# Altium integrated library ON Semi MOSFETs.IntLib: 1097 symbols (part 23 of 26)
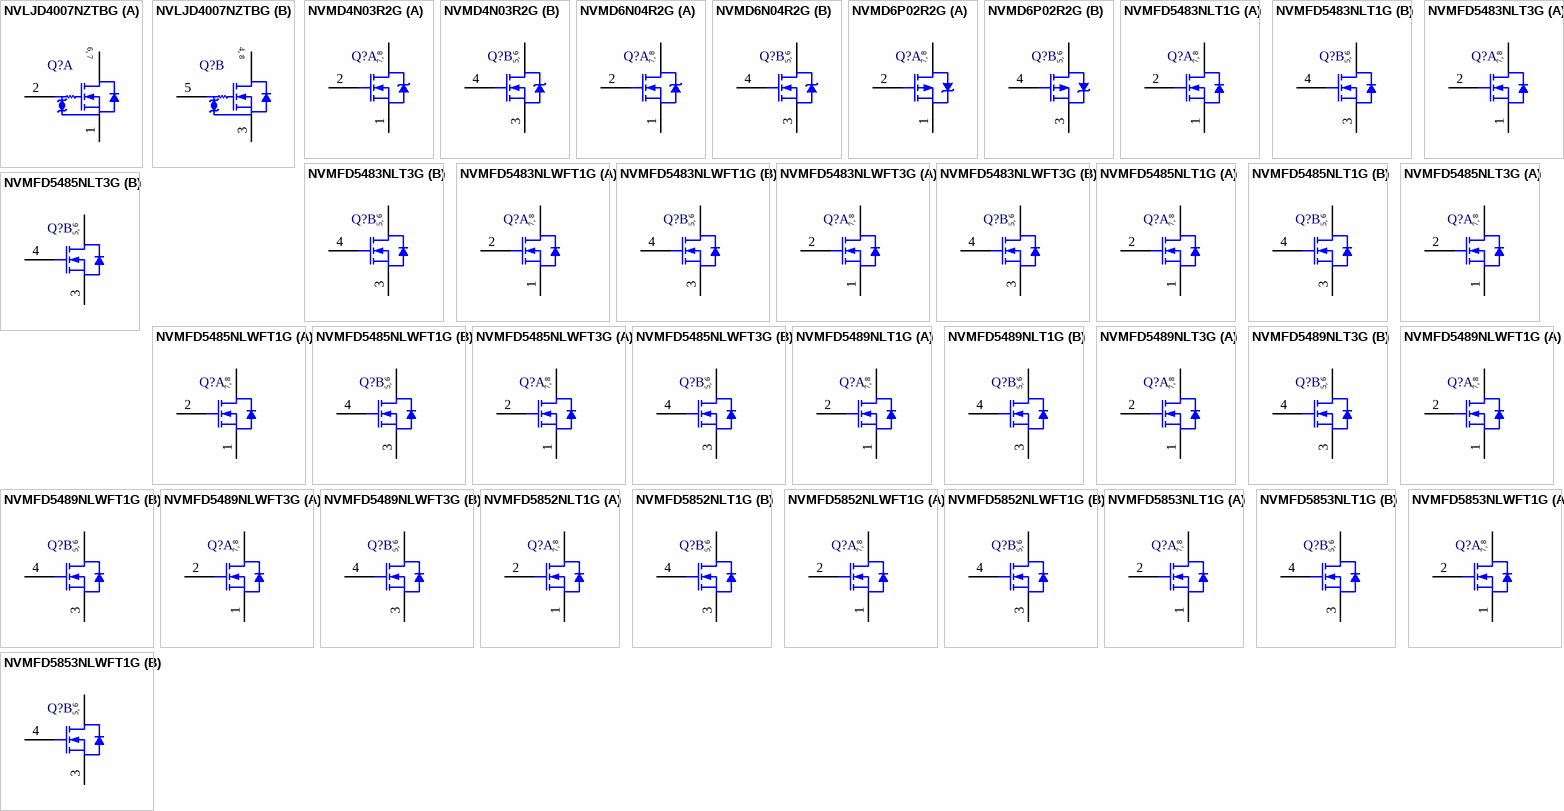
[diagram p53: symbols NVLJD4007NZTBG to NVMFD5853NLWFT1G]

## NVMD6P02R2G
designator Q?
Power MOSFET, 6 A, 20 V, P-Channel, 8-Pin SOIC, Pb-Free, Tape and Reel; Manufacturer: On Semiconductor; PartNumber: NVMD6P02R2G; Channel Polarity: P Channel; Ciss Typ (pF): 1380; Configuration: Dual; Coss Typ (pF): 515; Crss Typ (pF): 250; Qrr Typ (nC): 40; V(BR)DSS Min (V): 20; VGS Max (V): 12; VGS(th) Max (V): 1.2; DatasheetVersion: Rev. 4; PackageVersion: Rev. AK, 02/2011; PackageReference: SOIC-8-751-07; PackageDescription: 8-Pin Small Outline Integrated Circuit, Body 4.9 x 3.9 mm, Pitch 1.27 mm; Package Type: SOIC-8; Packing: Tape and Reel; RoHS: Pb-Free; Mounting Technology: Surface Mount; ComponentLink1Description: Manufacturer URL; ComponentLink1URL: http://www.onsemi.com/; ComponentLink2Description: Datasheet; ComponentLink2URL: http://www.onsemi.com/pub_link/Collateral/NTMD6P02R2-D.PDF; ComponentLink3Description: Package Specification; ComponentLink3URL: http://www.onsemi.com/pub_link/Collateral/751-07.PDF
footprint ONSC-SOIC-8-751-07_V (SOIC, 8-Leads, Body 4.9x3.9mm, Pitch 1.27mm)
part A pins: 1 S1, 2 G1, 7 D1, 8 D1
part B pins: 3 S2, 4 G2, 5 D2, 6 D2
part A text: 7, 8
part B text: 5, 6

## NVMFD5483NLT1G
designator Q?
Power MOSFET, 60 V, 36 mOhm , 24 A, Dual N-Channel, 8-Pin DFN, Pb-Free, Tape and Reel; Manufacturer: On Semiconductor; PartNumber: NVMFD5483NLT1G; Channel Polarity: N Channel; Ciss Typ (pF): 668; Coss Typ (pF): 152; Crss Typ (pF): 67; ID Max (A): 24; Qrr Typ (nC): 35; V(BR)DSS Min (V): 60; VGS Max (V): 20; VGS(th) Max (V): 2.5; DatasheetVersion: Rev. 1; PackageVersion: Rev. E, 02/2013; PackageReference: DFN-8-506BT; PackageDescription: 8-Pin Small Outline No-Lead, Body 4.9 x 5.9 mm, Pitch 1.27 mm; Supplier 1: Newark; Supplier Part Number 1: 11X3703; Supplier 2: Mouser; Supplier Part Number 2: 863-NVMFD5483NLT1G; Configuration: Dual; Package Type: DFN-8; Packing: Tape and Reel; RoHS: Pb-Free; Mounting Technology: Surface Mount; ComponentLink1Description: Manufacturer URL; ComponentLink1URL: http://www.onsemi.com/; ComponentLink2Description: Datasheet; ComponentLink2URL: http://www.onsemi.com/pub_link/Collateral/NVMFD5483NL-D.PDF; ComponentLink3Description: Package Specification; ComponentLink3URL: http://www.onsemi.com/pub_link/Collateral/506BT.PDF
footprint ONSC-DFN-8-506BT_V (DFN, 8-Leads, Body 5.9x4.9mm, Pitch 1.27mm)
part A pins: 1 S1, 2 G1, 7 D1, 8 D1
part B pins: 3 S2, 4 G2, 5 D2, 6 D2
part A text: 7, 8
part B text: 5, 6

## NVMFD5483NLT3G
designator Q?
Power MOSFET, 60 V, 24 A, 36 mOhm, Dual N-Channel, 8-Pin DFN, Pb-Free, Tape and Reel; Manufacturer: On Semiconductor; PartNumber: NVMFD5483NLT3G; Channel Polarity: N Channel; Ciss Typ (pF): 668; Coss Typ (pF): 152; Crss Typ (pF): 67; ID Max (A): 24; Qrr Typ (nC): 35; V(BR)DSS Min (V): 60; VGS Max (V): 20; VGS(th) Max (V): 2.5; DatasheetVersion: Rev. 1; PackageVersion: Rev. E, 02/2013; PackageReference: DFN-8-506BT; PackageDescription: 8-Pin Small Outline No-Lead, Body 4.9 x 5.9 mm, Pitch 1.27 mm; Supplier 1: Newark; Supplier Part Number 1: 11X3704; Supplier 2: Mouser; Supplier Part Number 2: 863-NVMFD5483NLT3G; Configuration: Dual; Package Type: DFN-8; Packing: Tape and Reel; RoHS: Pb-Free; Mounting Technology: Surface Mount; ComponentLink1Description: Manufacturer URL; ComponentLink1URL: http://www.onsemi.com/; ComponentLink2Description: Datasheet; ComponentLink2URL: http://www.onsemi.com/pub_link/Collateral/NVMFD5483NL-D.PDF; ComponentLink3Description: Package Specification; ComponentLink3URL: http://www.onsemi.com/pub_link/Collateral/506BT.PDF
footprint ONSC-DFN-8-506BT_V (DFN, 8-Leads, Body 5.9x4.9mm, Pitch 1.27mm)
part A pins: 1 S1, 2 G1, 7 D1, 8 D1
part B pins: 3 S2, 4 G2, 5 D2, 6 D2
part A text: 7, 8
part B text: 5, 6

## NVMFD5483NLWFT1G
designator Q?
Power MOSFET, 60 V, 36 mOhm , 24 A, Dual N-Channel, 8-Pin DFN, Pb-Free, Tape and Reel; Manufacturer: On Semiconductor; PartNumber: NVMFD5483NLWFT1G; Channel Polarity: N Channel; Ciss Typ (pF): 668; Coss Typ (pF): 152; Crss Typ (pF): 67; ID Max (A): 24; Qrr Typ (nC): 35; V(BR)DSS Min (V): 60; VGS Max (V): 20; VGS(th) Max (V): 2.5; DatasheetVersion: Rev. 1; PackageVersion: Rev. E, 02/2013; PackageReference: DFN-8-506BT; PackageDescription: 8-Pin Small Outline No-Lead, Body 4.9 x 5.9 mm, Pitch 1.27 mm; Supplier 1: Newark; Supplier Part Number 1: 11X3705; Supplier 2: Mouser; Supplier Part Number 2: 863-NVMFD5483NLWFT1G; Configuration: Dual; Package Type: DFN-8; Packing: Tape and Reel; RoHS: Pb-Free; Mounting Technology: Surface Mount; ComponentLink1Description: Manufacturer URL; ComponentLink1URL: http://www.onsemi.com/; ComponentLink2Description: Datasheet; ComponentLink2URL: http://www.onsemi.com/pub_link/Collateral/NVMFD5483NL-D.PDF; ComponentLink3Description: Package Specification; ComponentLink3URL: http://www.onsemi.com/pub_link/Collateral/506BT.PDF
footprint ONSC-DFN-8-506BT_V (DFN, 8-Leads, Body 5.9x4.9mm, Pitch 1.27mm)
part A pins: 1 S1, 2 G1, 7 D1, 8 D1
part B pins: 3 S2, 4 G2, 5 D2, 6 D2
part A text: 7, 8
part B text: 5, 6

## NVMFD5483NLWFT3G
designator Q?
Power MOSFET, 60 V, 24 A, 36 mOhm, Dual N-Channel, 8-Pin DFN, Pb-Free, Tape and Reel; Manufacturer: On Semiconductor; PartNumber: NVMFD5483NLWFT3G; Channel Polarity: N Channel; Ciss Typ (pF): 668; Coss Typ (pF): 152; Crss Typ (pF): 67; ID Max (A): 24; Qrr Typ (nC): 35; V(BR)DSS Min (V): 60; VGS Max (V): 20; VGS(th) Max (V): 2.5; DatasheetVersion: Rev. 1; PackageVersion: Rev. E, 02/2013; PackageReference: DFN-8-506BT; PackageDescription: 8-Pin Small Outline No-Lead, Body 4.9 x 5.9 mm, Pitch 1.27 mm; Supplier 1: Newark; Supplier Part Number 1: 11X3706; Supplier 2: Mouser; Supplier Part Number 2: 863-NVMFD5483NLWFT3G; Configuration: Dual; Package Type: DFN-8; Packing: Tape and Reel; RoHS: Pb-Free; Mounting Technology: Surface Mount; ComponentLink1Description: Manufacturer URL; ComponentLink1URL: http://www.onsemi.com/; ComponentLink2Description: Datasheet; ComponentLink2URL: http://www.onsemi.com/pub_link/Collateral/NVMFD5483NL-D.PDF; ComponentLink3Description: Package Specification; ComponentLink3URL: http://www.onsemi.com/pub_link/Collateral/506BT.PDF
footprint ONSC-DFN-8-506BT_V (DFN, 8-Leads, Body 5.9x4.9mm, Pitch 1.27mm)
part A pins: 1 S1, 2 G1, 7 D1, 8 D1
part B pins: 3 S2, 4 G2, 5 D2, 6 D2
part A text: 7, 8
part B text: 5, 6

## NVMFD5485NLT1G
designator Q?
Power MOSFET, 60 V, 20 A, 44 mOhm, Dual N-Channel, 8-Pin DFN, Pb-Free, Tape and Reel; Manufacturer: On Semiconductor; PartNumber: NVMFD5485NLT1G; Channel Polarity: N Channel; Ciss Typ (pF): 560; Coss Typ (pF): 126; Crss Typ (pF): 58; ID Max (A): 20; Qrr Typ (nC): 35.5; V(BR)DSS Min (V): 60; VGS(th) Max (V): 2.5; DatasheetVersion: Rev. 1; PackageVersion: Rev. E, 02/2013; PackageReference: DFN-8-506BT; PackageDescription: 8-Pin Small Outline No-Lead, Body 4.9 x 5.9 mm, Pitch 1.27 mm; Supplier 1: Newark; Supplier Part Number 1: 11X3707; Supplier 2: Mouser; Supplier Part Number 2: 863-NVMFD5485NLT1G; Configuration: Dual; Package Type: DFN-8; Packing: Tape and Reel; RoHS: Pb-Free; VGS Max (V): 20; Mounting Technology: Surface Mount; ComponentLink1Description: Manufacturer URL; ComponentLink1URL: http://www.onsemi.com/; ComponentLink2Description: Datasheet; ComponentLink2URL: http://www.onsemi.com/pub_link/Collateral/NVMFD5485NL-D.PDF; ComponentLink3Description: Package Specification; ComponentLink3URL: http://www.onsemi.com/pub_link/Collateral/506BT.PDF
footprint ONSC-DFN-8-506BT_V (DFN, 8-Leads, Body 5.9x4.9mm, Pitch 1.27mm)
part A pins: 1 S1, 2 G1, 7 D1, 8 D1
part B pins: 3 S2, 4 G2, 5 D2, 6 D2
part A text: 7, 8
part B text: 5, 6

## NVMFD5485NLT3G
designator Q?
Power MOSFET, 60 V, 20 A, 44 mOhm, Dual N-Channel, 8-Pin DFN, Pb-Free, Tape and Reel; Manufacturer: On Semiconductor; PartNumber: NVMFD5485NLT3G; Channel Polarity: N Channel; Ciss Typ (pF): 560; Coss Typ (pF): 126; Crss Typ (pF): 58; ID Max (A): 20; Qrr Typ (nC): 35.5; V(BR)DSS Min (V): 60; VGS(th) Max (V): 2.5; DatasheetVersion: Rev. 1; PackageVersion: Rev. E, 02/2013; PackageReference: DFN-8-506BT; PackageDescription: 8-Pin Small Outline No-Lead, Body 4.9 x 5.9 mm, Pitch 1.27 mm; Supplier 1: Newark; Supplier Part Number 1: 11X3708; Supplier 2: Mouser; Supplier Part Number 2: 863-NVMFD5485NLT3G; Configuration: Dual; Package Type: DFN-8; Packing: Tape and Reel; RoHS: Pb-Free; VGS Max (V): 20; Mounting Technology: Surface Mount; ComponentLink1Description: Manufacturer URL; ComponentLink1URL: http://www.onsemi.com/; ComponentLink2Description: Datasheet; ComponentLink2URL: http://www.onsemi.com/pub_link/Collateral/NVMFD5485NL-D.PDF; ComponentLink3Description: Package Specification; ComponentLink3URL: http://www.onsemi.com/pub_link/Collateral/506BT.PDF
footprint ONSC-DFN-8-506BT_V (DFN, 8-Leads, Body 5.9x4.9mm, Pitch 1.27mm)
part A pins: 1 S1, 2 G1, 7 D1, 8 D1
part B pins: 3 S2, 4 G2, 5 D2, 6 D2
part A text: 7, 8
part B text: 5, 6

## NVMFD5485NLWFT1G
designator Q?
Power MOSFET, 60 V, 20 A, 44 mOhm, Dual N-Channel, 8-Pin DFN, Pb-Free, Tape and Reel; Manufacturer: On Semiconductor; PartNumber: NVMFD5485NLWFT1G; Channel Polarity: N Channel; Ciss Typ (pF): 560; Coss Typ (pF): 126; Crss Typ (pF): 58; ID Max (A): 20; Qrr Typ (nC): 35.5; V(BR)DSS Min (V): 60; VGS(th) Max (V): 2.5; DatasheetVersion: Rev. 1; PackageVersion: Rev. E, 02/2013; PackageReference: DFN-8-506BT; PackageDescription: 8-Pin Small Outline No-Lead, Body 4.9 x 5.9 mm, Pitch 1.27 mm; Supplier 1: Newark; Supplier Part Number 1: 11X3709; Supplier 2: Mouser; Supplier Part Number 2: 863-NVMFD5485NLWFT1G; Configuration: Dual; Package Type: DFN-8; Packing: Tape and Reel; RoHS: Pb-Free; VGS Max (V): 20; Mounting Technology: Surface Mount; ComponentLink1Description: Manufacturer URL; ComponentLink1URL: http://www.onsemi.com/; ComponentLink2Description: Datasheet; ComponentLink2URL: http://www.onsemi.com/pub_link/Collateral/NVMFD5485NL-D.PDF; ComponentLink3Description: Package Specification; ComponentLink3URL: http://www.onsemi.com/pub_link/Collateral/506BT.PDF
footprint ONSC-DFN-8-506BT_V (DFN, 8-Leads, Body 5.9x4.9mm, Pitch 1.27mm)
part A pins: 1 S1, 2 G1, 7 D1, 8 D1
part B pins: 3 S2, 4 G2, 5 D2, 6 D2
part A text: 7, 8
part B text: 5, 6

## NVMFD5485NLWFT3G
designator Q?
Power MOSFET, 60 V, 20 A, 44 mOhm, Dual N-Channel, 8-Pin DFN, Pb-Free, Tape and Reel; Manufacturer: On Semiconductor; PartNumber: NVMFD5485NLWFT3G; Channel Polarity: N Channel; Ciss Typ (pF): 560; Coss Typ (pF): 126; Crss Typ (pF): 58; ID Max (A): 20; Qrr Typ (nC): 35.5; V(BR)DSS Min (V): 60; VGS(th) Max (V): 2.5; DatasheetVersion: Rev. 1; PackageVersion: Rev. E, 02/2013; PackageReference: DFN-8-506BT; PackageDescription: 8-Pin Small Outline No-Lead, Body 4.9 x 5.9 mm, Pitch 1.27 mm; Supplier 1: Newark; Supplier Part Number 1: 11X3710; Supplier 2: Mouser; Supplier Part Number 2: 863-NVMFD5485NLWFT3G; Configuration: Dual; Package Type: DFN-8; Packing: Tape and Reel; RoHS: Pb-Free; VGS Max (V): 20; Mounting Technology: Surface Mount; ComponentLink1Description: Manufacturer URL; ComponentLink1URL: http://www.onsemi.com/; ComponentLink2Description: Datasheet; ComponentLink2URL: http://www.onsemi.com/pub_link/Collateral/NVMFD5485NL-D.PDF; ComponentLink3Description: Package Specification; ComponentLink3URL: http://www.onsemi.com/pub_link/Collateral/506BT.PDF
footprint ONSC-DFN-8-506BT_V (DFN, 8-Leads, Body 5.9x4.9mm, Pitch 1.27mm)
part A pins: 1 S1, 2 G1, 7 D1, 8 D1
part B pins: 3 S2, 4 G2, 5 D2, 6 D2
part A text: 7, 8
part B text: 5, 6

## NVMFD5489NLT1G
designator Q?
Power MOSFET, 60 V, 12 A, 65 mOhm, Dual N-Channel Logic Level, 8-Pin DFN, Pb-Free, Tape and Reel; Manufacturer: On Semiconductor; PartNumber: NVMFD5489NLT1G; Channel Polarity: N Channel; Ciss Typ (pF): 330; Coss Typ (pF): 80; Crss Typ (pF): 39; ID Max (A): 12; Qrr Typ (nC): 26.5; V(BR)DSS Min (V): 60; VGS Max (V): 20; VGS(th) Max (V): 2.5; DatasheetVersion: Rev. 1; PackageVersion: Rev. E, 02/2013; PackageReference: DFN-8-506BT; PackageDescription: 8-Pin Small Outline No-Lead, Body 4.9 x 5.9 mm, Pitch 1.27 mm; Supplier 1: Newark; Supplier Part Number 1: 11X3711; Supplier 2: Mouser; Supplier Part Number 2: 863-NVMFD5489NLT1G; Configuration: Dual; Package Type: DFN-8; Packing: Tape and Reel; RoHS: Pb-Free; Mounting Technology: Surface Mount; ComponentLink1Description: Manufacturer URL; ComponentLink1URL: http://www.onsemi.com/; ComponentLink2Description: Datasheet; ComponentLink2URL: http://www.onsemi.com/pub_link/Collateral/NVMFD5489NL-D.PDF; ComponentLink3Description: Package Specification; ComponentLink3URL: http://www.onsemi.com/pub_link/Collateral/506BT.PDF
footprint ONSC-DFN-8-506BT_V (DFN, 8-Leads, Body 5.9x4.9mm, Pitch 1.27mm)
part A pins: 1 S1, 2 G1, 7 D1, 8 D1
part B pins: 3 S2, 4 G2, 5 D2, 6 D2
part A text: 7, 8
part B text: 5, 6

## NVMFD5489NLT3G
designator Q?
Power MOSFET, 60 V, 12 A, 65 mOhm, Dual N-Channel Logic Level, 8-Pin DFN, Pb-Free, Tape and Reel; Manufacturer: On Semiconductor; PartNumber: NVMFD5489NLT3G; Channel Polarity: N Channel; Ciss Typ (pF): 330; Coss Typ (pF): 80; Crss Typ (pF): 39; ID Max (A): 12; Qrr Typ (nC): 26.5; V(BR)DSS Min (V): 60; VGS Max (V): 20; VGS(th) Max (V): 2.5; DatasheetVersion: Rev. 1; PackageVersion: Rev. E, 02/2013; PackageReference: DFN-8-506BT; PackageDescription: 8-Pin Small Outline No-Lead, Body 4.9 x 5.9 mm, Pitch 1.27 mm; Supplier 1: Newark; Supplier Part Number 1: 11X3712; Supplier 2: Mouser; Supplier Part Number 2: 863-NVMFD5489NLT3G; Configuration: Dual; Package Type: DFN-8; Packing: Tape and Reel; RoHS: Pb-Free; Mounting Technology: Surface Mount; ComponentLink1Description: Manufacturer URL; ComponentLink1URL: http://www.onsemi.com/; ComponentLink2Description: Datasheet; ComponentLink2URL: http://www.onsemi.com/pub_link/Collateral/NVMFD5489NL-D.PDF; ComponentLink3Description: Package Specification; ComponentLink3URL: http://www.onsemi.com/pub_link/Collateral/506BT.PDF
footprint ONSC-DFN-8-506BT_V (DFN, 8-Leads, Body 5.9x4.9mm, Pitch 1.27mm)
part A pins: 1 S1, 2 G1, 7 D1, 8 D1
part B pins: 3 S2, 4 G2, 5 D2, 6 D2
part A text: 7, 8
part B text: 5, 6

## NVMFD5489NLWFT1G
designator Q?
Power MOSFET, 60 V, 12 A, 65 mOhm, Dual N-Channel Logic Level, 8-Pin DFN, Pb-Free, Tape and Reel; Manufacturer: On Semiconductor; PartNumber: NVMFD5489NLWFT1G; Channel Polarity: N Channel; Ciss Typ (pF): 330; Coss Typ (pF): 80; Crss Typ (pF): 39; ID Max (A): 12; Qrr Typ (nC): 26.5; V(BR)DSS Min (V): 60; VGS Max (V): 20; VGS(th) Max (V): 2.5; DatasheetVersion: Rev. 1; PackageVersion: Rev. E, 02/2013; PackageReference: DFN-8-506BT; PackageDescription: 8-Pin Small Outline No-Lead, Body 4.9 x 5.9 mm, Pitch 1.27 mm; Supplier 1: Newark; Supplier Part Number 1: 11X3713; Supplier 2: Mouser; Supplier Part Number 2: 863-NVMFD5489NLWFT1G; Configuration: Dual; Package Type: DFN-8; Packing: Tape and Reel; RoHS: Pb-Free; Mounting Technology: Surface Mount; ComponentLink1Description: Manufacturer URL; ComponentLink1URL: http://www.onsemi.com/; ComponentLink2Description: Datasheet; ComponentLink2URL: http://www.onsemi.com/pub_link/Collateral/NVMFD5489NL-D.PDF; ComponentLink3Description: Package Specification; ComponentLink3URL: http://www.onsemi.com/pub_link/Collateral/506BT.PDF
footprint ONSC-DFN-8-506BT_V (DFN, 8-Leads, Body 5.9x4.9mm, Pitch 1.27mm)
part A pins: 1 S1, 2 G1, 7 D1, 8 D1
part B pins: 3 S2, 4 G2, 5 D2, 6 D2
part A text: 7, 8
part B text: 5, 6

## NVMFD5489NLWFT3G
designator Q?
Power MOSFET, 60 V, 12 A, 65 mOhm, Dual N-Channel Logic Level, 8-Pin DFN, Pb-Free, Tape and Reel; Manufacturer: On Semiconductor; PartNumber: NVMFD5489NLWFT3G; Channel Polarity: N Channel; Ciss Typ (pF): 330; Coss Typ (pF): 80; Crss Typ (pF): 39; ID Max (A): 12; Qrr Typ (nC): 26.5; V(BR)DSS Min (V): 60; VGS Max (V): 20; VGS(th) Max (V): 2.5; DatasheetVersion: Rev. 1; PackageVersion: Rev. E, 02/2013; PackageReference: DFN-8-506BT; PackageDescription: 8-Pin Small Outline No-Lead, Body 4.9 x 5.9 mm, Pitch 1.27 mm; Supplier 1: Newark; Supplier Part Number 1: 11X3714; Supplier 2: Mouser; Supplier Part Number 2: 863-NVMFD5489NLWFT3G; Configuration: Dual; Package Type: DFN-8; Packing: Tape and Reel; RoHS: Pb-Free; Mounting Technology: Surface Mount; ComponentLink1Description: Manufacturer URL; ComponentLink1URL: http://www.onsemi.com/; ComponentLink2Description: Datasheet; ComponentLink2URL: http://www.onsemi.com/pub_link/Collateral/NVMFD5489NL-D.PDF; ComponentLink3Description: Package Specification; ComponentLink3URL: http://www.onsemi.com/pub_link/Collateral/506BT.PDF
footprint ONSC-DFN-8-506BT_V (DFN, 8-Leads, Body 5.9x4.9mm, Pitch 1.27mm)
part A pins: 1 S1, 2 G1, 7 D1, 8 D1
part B pins: 3 S2, 4 G2, 5 D2, 6 D2
part A text: 7, 8
part B text: 5, 6

## NVMFD5852NLT1G
designator Q?
Power MOSFET, 40 V, 44 A, 6.9 mOhm, Dual N-Channel Logic Level, 8-Pin DFN, Pb-Free, Tape and Reel; Manufacturer: On Semiconductor; PartNumber: NVMFD5852NLT1G; Channel Polarity: N Channel; Ciss Typ (pF): 1800; Coss Typ (pF): 240; Crss Typ (pF): 180; ID Max (A): 44; Qrr Typ (nC): 15.2; V(BR)DSS Min (V): 40; VGS Max (V): 20; VGS(th) Max (V): 2.4; DatasheetVersion: Rev. 5; PackageVersion: Rev. E, 02/2013; PackageReference: DFN-8-506BT; PackageDescription: 8-Pin Small Outline No-Lead, Body 4.9 x 5.9 mm, Pitch 1.27 mm; Supplier 1: Newark; Supplier Part Number 1: 60W1850; Supplier 2: Mouser; Supplier Part Number 2: 863-NVMFD5852NLT1G; Configuration: Dual; Package Type: DFN-8; Packing: Tape and Reel; RoHS: Pb-Free; Mounting Technology: Surface Mount; ComponentLink1Description: Manufacturer URL; ComponentLink1URL: http://www.onsemi.com/; ComponentLink2Description: Datasheet; ComponentLink2URL: http://www.onsemi.com/pub_link/Collateral/NVMFD5852NL-D.PDF; ComponentLink3Description: Package Specification; ComponentLink3URL: http://www.onsemi.com/pub_link/Collateral/506BT.PDF
footprint ONSC-DFN-8-506BT_V (DFN, 8-Leads, Body 5.9x4.9mm, Pitch 1.27mm)
part A pins: 1 S1, 2 G1, 7 D1, 8 D1
part B pins: 3 S2, 4 G2, 5 D2, 6 D2
part A text: 7, 8
part B text: 5, 6

## NVMFD5852NLWFT1G
designator Q?
Power MOSFET, 40 V, 44 A, 6.9 mOhm, Dual N-Channel Logic Level, 8-Pin DFN, Pb-Free, Tape and Reel; Manufacturer: On Semiconductor; PartNumber: NVMFD5852NLWFT1G; Channel Polarity: N Channel; Ciss Typ (pF): 1800; Coss Typ (pF): 240; Crss Typ (pF): 180; ID Max (A): 44; Qrr Typ (nC): 15.2; V(BR)DSS Min (V): 40; VGS Max (V): 20; VGS(th) Max (V): 2.4; DatasheetVersion: Rev. 5; PackageVersion: Rev. E, 02/2013; PackageReference: DFN-8-506BT; PackageDescription: 8-Pin Small Outline No-Lead, Body 4.9 x 5.9 mm, Pitch 1.27 mm; Supplier 1: Newark; Supplier Part Number 1: 11X3715; Supplier 2: Mouser; Supplier Part Number 2: 863-NVMFD5852NLWFT1G; Configuration: Dual; Package Type: DFN-8; Packing: Tape and Reel; RoHS: Pb-Free; Mounting Technology: Surface Mount; ComponentLink1Description: Manufacturer URL; ComponentLink1URL: http://www.onsemi.com/; ComponentLink2Description: Datasheet; ComponentLink2URL: http://www.onsemi.com/pub_link/Collateral/NVMFD5852NL-D.PDF; ComponentLink3Description: Package Specification; ComponentLink3URL: http://www.onsemi.com/pub_link/Collateral/506BT.PDF
footprint ONSC-DFN-8-506BT_V (DFN, 8-Leads, Body 5.9x4.9mm, Pitch 1.27mm)
part A pins: 1 S1, 2 G1, 7 D1, 8 D1
part B pins: 3 S2, 4 G2, 5 D2, 6 D2
part A text: 7, 8
part B text: 5, 6

## NVMFD5853NLT1G
designator Q?
Power MOSFET, 40 V, 34 A, 10 mOhm, Dual N-Channel Logic Level, 8-Pin DFN, Pb-Free, Tape and Reel; Manufacturer: On Semiconductor; PartNumber: NVMFD5853NLT1G; Channel Polarity: N Channel; Ciss Typ (pF): 1100; Coss Typ (pF): 152; Crss Typ (pF): 100; ID Max (A): 34; Qrr Typ (nC): 12.1; V(BR)DSS Min (V): 40; VGS Max (V): 20; VGS(th) Max (V): 2.4; DatasheetVersion: Rev. 3; PackageVersion: Rev. E, 02/2013; PackageReference: DFN-8-506BT; PackageDescription: 8-Pin Small Outline No-Lead, Body 4.9 x 5.9 mm, Pitch 1.27 mm; Supplier 1: Newark; Supplier Part Number 1: 72W2342; Supplier 2: Mouser; Supplier Part Number 2: 863-NVMFD5853NLT1G; Configuration: Dual; Package Type: SO-8FL Dual / DFN-8; Packing: Tape and Reel; RoHS: Pb-Free; Mounting Technology: Surface Mount; ComponentLink1Description: Manufacturer URL; ComponentLink1URL: http://www.onsemi.com/; ComponentLink2Description: Datasheet; ComponentLink2URL: http://www.onsemi.com/pub_link/Collateral/NVMFD5853NL-D.PDF; ComponentLink3Description: Package Specification; ComponentLink3URL: http://www.onsemi.com/pub_link/Collateral/506BT.PDF
footprint ONSC-DFN-8-506BT_V (DFN, 8-Leads, Body 5.9x4.9mm, Pitch 1.27mm)
part A pins: 1 S1, 2 G1, 7 D1, 8 D1
part B pins: 3 S2, 4 G2, 5 D2, 6 D2
part A text: 7, 8
part B text: 5, 6

## NVMFD5853NLWFT1G
designator Q?
Power MOSFET, 40 V, 34 A, 10 mOhm, Dual N-Channel Logic Level, 8-Pin DFN, Pb-Free, Tape and Reel; Manufacturer: On Semiconductor; PartNumber: NVMFD5853NLWFT1G; Channel Polarity: N Channel; Ciss Typ (pF): 1100; Coss Typ (pF): 152; Crss Typ (pF): 100; ID Max (A): 34; Qrr Typ (nC): 12.1; V(BR)DSS Min (V): 40; VGS Max (V): 20; VGS(th) Max (V): 2.4; DatasheetVersion: Rev. 3; PackageVersion: Rev. E, 02/2013; PackageReference: DFN-8-506BT; PackageDescription: 8-Pin Small Outline No-Lead, Body 4.9 x 5.9 mm, Pitch 1.27 mm; Supplier 1: Newark; Supplier Part Number 1: 11X3716; Supplier 2: Mouser; Supplier Part Number 2: 863-NVMFD5853NLWFT1G; Configuration: Dual; Package Type: SO-8FL Dual / DFN-8; Packing: Tape and Reel; RoHS: Pb-Free; Mounting Technology: Surface Mount; ComponentLink1Description: Manufacturer URL; ComponentLink1URL: http://www.onsemi.com/; ComponentLink2Description: Datasheet; ComponentLink2URL: http://www.onsemi.com/pub_link/Collateral/NVMFD5853NL-D.PDF; ComponentLink3Description: Package Specification; ComponentLink3URL: http://www.onsemi.com/pub_link/Collateral/506BT.PDF
footprint ONSC-DFN-8-506BT_V (DFN, 8-Leads, Body 5.9x4.9mm, Pitch 1.27mm)
part A pins: 1 S1, 2 G1, 7 D1, 8 D1
part B pins: 3 S2, 4 G2, 5 D2, 6 D2
part A text: 7, 8
part B text: 5, 6

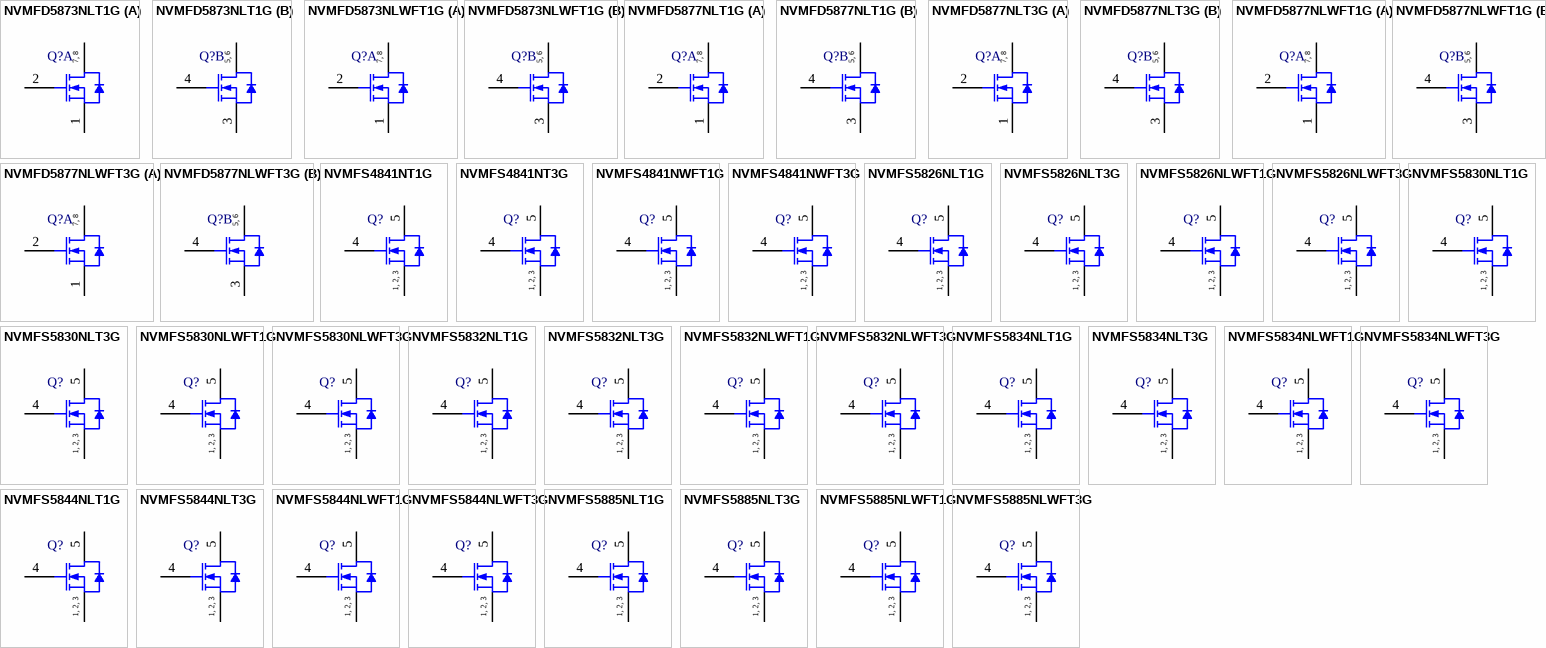
[diagram p28: symbols NVMFD5873NLT1G to NVMFS5885NLWFT3G]

## NVMFD5873NLT1G
designator Q?
Power MOSFET, 60 V, 58 A, 13 mOhm, Dual N-Channel Logic Level, 8-Pin DFN, Pb-Free, Tape and Reel; Manufacturer: On Semiconductor; PartNumber: NVMFD5873NLT1G; Channel Polarity: N Channel; Ciss Typ (pF): 1560; Coss Typ (pF): 145; Crss Typ (pF): 98; ID Max (A): 58; Qrr Typ (nC): 18; V(BR)DSS Min (V): 60; VGS Max (V): 20; VGS(th) Max (V): 2.5; DatasheetVersion: Rev. 2; PackageVersion: Rev. E, 02/2013; PackageReference: DFN-8-506BT; PackageDescription: 8-Pin Small Outline No-Lead, Body 4.9 x 5.9 mm, Pitch 1.27 mm; Supplier 1: Newark; Supplier Part Number 1: 72W2343; Supplier 2: Mouser; Supplier Part Number 2: 863-NVMFD5873NLT1G; Configuration: Dual; Package Type: SO-8FL Dual / DFN-8; Packing: Tape and Reel; RoHS: Pb-Free; Mounting Technology: Surface Mount; ComponentLink1Description: Manufacturer URL; ComponentLink1URL: http://www.onsemi.com/; ComponentLink2Description: Datasheet; ComponentLink2URL: http://www.onsemi.com/pub_link/Collateral/NVMFD5873NL-D.PDF; ComponentLink3Description: Package Specification; ComponentLink3URL: http://www.onsemi.com/pub_link/Collateral/506BT.PDF
footprint ONSC-DFN-8-506BT_V (DFN, 8-Leads, Body 5.9x4.9mm, Pitch 1.27mm)
part A pins: 1 S1, 2 G1, 7 D1, 8 D1
part B pins: 3 S2, 4 G2, 5 D2, 6 D2
part A text: 7, 8
part B text: 5, 6

## NVMFD5873NLWFT1G
designator Q?
Power MOSFET, 60 V, 58 A, 13 mOhm, Dual N-Channel Logic Level, 8-Pin DFN, Pb-Free, Tape and Reel; Manufacturer: On Semiconductor; PartNumber: NVMFD5873NLWFT1G; Channel Polarity: N Channel; Ciss Typ (pF): 1560; Coss Typ (pF): 145; Crss Typ (pF): 98; ID Max (A): 58; Qrr Typ (nC): 18; V(BR)DSS Min (V): 60; VGS Max (V): 20; VGS(th) Max (V): 2.5; DatasheetVersion: Rev. 2; PackageVersion: Rev. E, 02/2013; PackageReference: DFN-8-506BT; PackageDescription: 8-Pin Small Outline No-Lead, Body 4.9 x 5.9 mm, Pitch 1.27 mm; Supplier 1: Newark; Supplier Part Number 1: 11X3717; Supplier 2: Mouser; Supplier Part Number 2: 863-NVMFD5873NLWFT1G; Configuration: Dual; Package Type: SO-8FL Dual / DFN-8; Packing: Tape and Reel; RoHS: Pb-Free; Mounting Technology: Surface Mount; ComponentLink1Description: Manufacturer URL; ComponentLink1URL: http://www.onsemi.com/; ComponentLink2Description: Datasheet; ComponentLink2URL: http://www.onsemi.com/pub_link/Collateral/NVMFD5873NL-D.PDF; ComponentLink3Description: Package Specification; ComponentLink3URL: http://www.onsemi.com/pub_link/Collateral/506BT.PDF
footprint ONSC-DFN-8-506BT_V (DFN, 8-Leads, Body 5.9x4.9mm, Pitch 1.27mm)
part A pins: 1 S1, 2 G1, 7 D1, 8 D1
part B pins: 3 S2, 4 G2, 5 D2, 6 D2
part A text: 7, 8
part B text: 5, 6

## NVMFD5877NLT1G
designator Q?
Power MOSFET, 60 V, 17 A, 39 mOhm, Dual N-Channel, Logic Level, 8-Pin DFN, Pb-Free, Tape and Reel; Manufacturer: On Semiconductor; PartNumber: NVMFD5877NLT1G; Channel Polarity: N Channel; Ciss Typ (pF): 540; Coss Typ (pF): 55; Crss Typ (pF): 36; ID Max (A): 17; Qrr Typ (nC): 11; V(BR)DSS Min (V): 60; VGS Max (V): 20; VGS(th) Max (V): 3; DatasheetVersion: Rev. 7; PackageVersion: Rev. E, 02/2013; PackageReference: DFN-8-506BT; PackageDescription: 8-Pin Small Outline No-Lead, Body 4.9 x 5.9 mm, Pitch 1.27 mm; Supplier 1: Digi-Key; Supplier Part Number 1: NVMFD5877NLT1G-ND; Supplier 2: Newark; Supplier Part Number 2: 52T8348; Supplier 3: Mouser; Supplier Part Number 3: 863-NVMFD5877NLT1G; Configuration: Dual; Package Type: SO-8FL Dual / DFN-8; Packing: Tape and Reel; RoHS: Pb-Free; Mounting Technology: Surface Mount; ComponentLink1Description: Manufacturer URL; ComponentLink1URL: http://www.onsemi.com/; ComponentLink2Description: Datasheet; ComponentLink2URL: http://www.onsemi.com/pub_link/Collateral/NVMFD5877NL-D.PDF; ComponentLink3Description: Package Specification; ComponentLink3URL: http://www.onsemi.com/pub_link/Collateral/506BT.PDF
footprint ONSC-DFN-8-506BT_V (DFN, 8-Leads, Body 5.9x4.9mm, Pitch 1.27mm)
part A pins: 1 S1, 2 G1, 7 D1, 8 D1
part B pins: 3 S2, 4 G2, 5 D2, 6 D2
part A text: 7, 8
part B text: 5, 6

## NVMFD5877NLT3G
designator Q?
Power MOSFET, 60 V, 17 A, 39 mOhm, Dual N-Channel, Logic Level, 8-Pin DFN, Pb-Free, Tape and Reel; Manufacturer: On Semiconductor; PartNumber: NVMFD5877NLT3G; Channel Polarity: N Channel; Ciss Typ (pF): 540; Coss Typ (pF): 55; Crss Typ (pF): 36; ID Max (A): 17; Qrr Typ (nC): 11; V(BR)DSS Min (V): 60; VGS Max (V): 20; VGS(th) Max (V): 3; DatasheetVersion: Rev. 7; PackageVersion: Rev. E, 02/2013; PackageReference: DFN-8-506BT; PackageDescription: 8-Pin Small Outline No-Lead, Body 4.9 x 5.9 mm, Pitch 1.27 mm; Supplier 1: Digi-Key; Supplier Part Number 1: NVMFD5877NLT3G-ND; Supplier 2: Mouser; Supplier Part Number 2: 863-NVMFD5877NLT3G; Configuration: Dual; Package Type: SO-8FL Dual / DFN-8; Packing: Tape and Reel; RoHS: Pb-Free; Mounting Technology: Surface Mount; ComponentLink1Description: Manufacturer URL; ComponentLink1URL: http://www.onsemi.com/; ComponentLink2Description: Datasheet; ComponentLink2URL: http://www.onsemi.com/pub_link/Collateral/NVMFD5877NL-D.PDF; ComponentLink3Description: Package Specification; ComponentLink3URL: http://www.onsemi.com/pub_link/Collateral/506BT.PDF
footprint ONSC-DFN-8-506BT_V (DFN, 8-Leads, Body 5.9x4.9mm, Pitch 1.27mm)
part A pins: 1 S1, 2 G1, 7 D1, 8 D1
part B pins: 3 S2, 4 G2, 5 D2, 6 D2
part A text: 7, 8
part B text: 5, 6

## NVMFD5877NLWFT1G
designator Q?
Power MOSFET, 60 V, 17 A, 39 mOhm, Dual N-Channel, Logic Level, 8-Pin DFN, Pb-Free, Tape and Reel; Manufacturer: On Semiconductor; PartNumber: NVMFD5877NLWFT1G; Channel Polarity: N Channel; Ciss Typ (pF): 540; Coss Typ (pF): 55; Crss Typ (pF): 36; ID Max (A): 17; Qrr Typ (nC): 11; V(BR)DSS Min (V): 60; VGS Max (V): 20; VGS(th) Max (V): 3; DatasheetVersion: Rev. 7; PackageVersion: Rev. E, 02/2013; PackageReference: DFN-8-506BT; PackageDescription: 8-Pin Small Outline No-Lead, Body 4.9 x 5.9 mm, Pitch 1.27 mm; Supplier 1: Newark; Supplier Part Number 1: 11X3718; Supplier 2: Mouser; Supplier Part Number 2: 863-NVMFD5877NLWFT1G; Configuration: Dual; Package Type: SO-8FL Dual / DFN-8; Packing: Tape and Reel; RoHS: Pb-Free; Mounting Technology: Surface Mount; ComponentLink1Description: Manufacturer URL; ComponentLink1URL: http://www.onsemi.com/; ComponentLink2Description: Datasheet; ComponentLink2URL: http://www.onsemi.com/pub_link/Collateral/NVMFD5877NL-D.PDF; ComponentLink3Description: Package Specification; ComponentLink3URL: http://www.onsemi.com/pub_link/Collateral/506BT.PDF
footprint ONSC-DFN-8-506BT_V (DFN, 8-Leads, Body 5.9x4.9mm, Pitch 1.27mm)
part A pins: 1 S1, 2 G1, 7 D1, 8 D1
part B pins: 3 S2, 4 G2, 5 D2, 6 D2
part A text: 7, 8
part B text: 5, 6

## NVMFD5877NLWFT3G
designator Q?
Power MOSFET, 60 V, 17 A, 39 mOhm, Dual N-Channel, Logic Level, 8-Pin DFN, Pb-Free, Tape and Reel; Manufacturer: On Semiconductor; PartNumber: NVMFD5877NLWFT3G; Channel Polarity: N Channel; Ciss Typ (pF): 540; Coss Typ (pF): 55; Crss Typ (pF): 36; ID Max (A): 17; Qrr Typ (nC): 11; V(BR)DSS Min (V): 60; VGS Max (V): 20; VGS(th) Max (V): 3; DatasheetVersion: Rev. 7; PackageVersion: Rev. E, 02/2013; PackageReference: DFN-8-506BT; PackageDescription: 8-Pin Small Outline No-Lead, Body 4.9 x 5.9 mm, Pitch 1.27 mm; Supplier 1: Newark; Supplier Part Number 1: 11X3719; Supplier 2: Mouser; Supplier Part Number 2: 863-NVMFD5877NLWFT3G; Configuration: Dual; Package Type: SO-8FL Dual / DFN-8; Packing: Tape and Reel; RoHS: Pb-Free; Mounting Technology: Surface Mount; ComponentLink1Description: Manufacturer URL; ComponentLink1URL: http://www.onsemi.com/; ComponentLink2Description: Datasheet; ComponentLink2URL: http://www.onsemi.com/pub_link/Collateral/NVMFD5877NL-D.PDF; ComponentLink3Description: Package Specification; ComponentLink3URL: http://www.onsemi.com/pub_link/Collateral/506BT.PDF
footprint ONSC-DFN-8-506BT_V (DFN, 8-Leads, Body 5.9x4.9mm, Pitch 1.27mm)
part A pins: 1 S1, 2 G1, 7 D1, 8 D1
part B pins: 3 S2, 4 G2, 5 D2, 6 D2
part A text: 7, 8
part B text: 5, 6

## NVMFS4841NT1G
designator Q?
Power MOSFET, 30 V, 89 A, 7 mOhm, Single N-Channel, 5-Pin DFN, Pb-Free, Tape and Reel; Manufacturer: On Semiconductor; PartNumber: NVMFS4841NT1G; Channel Polarity: N Channel; Ciss Typ (pF): 1436; Coss Typ (pF): 348; Crss Typ (pF): 177; ID Max (A): 89; Qrr Typ (nC): 10.7; V(BR)DSS Min (V): 30; VGS Max (V): 20; VGS(th) Max (V): 2.5; DatasheetVersion: Rev. 3; PackageVersion: Rev. H, 03/2013; PackageReference: DFN-5-488AA; PackageDescription: 5-Pin Small Outline No-Lead, Body 4.9 x 5.9 mm, Pitch 1.27 mm; Supplier 1: Digi-Key; Supplier Part Number 1: NVMFS4841NT1G-ND; Supplier 2: Mouser; Supplier Part Number 2: 863-NVMFS4841NT1G; Configuration: Single; Package Type: DFN-5; Packing: Tape and Reel; RoHS: Pb-Free; Mounting Technology: Surface Mount; Code_JEDEC: MO-240A; ComponentLink1Description: Manufacturer URL; ComponentLink1URL: http://www.onsemi.com/; ComponentLink2Description: Datasheet; ComponentLink2URL: http://www.onsemi.com/pub_link/Collateral/NVMFS4841N-D.PDF; ComponentLink3Description: Package Specification; ComponentLink3URL: http://www.onsemi.com/pub_link/Collateral/488AA.PDF
footprint ONSC-DFN-5-488AA_V (DFN, 5-Leads, Body 5.9x4.9mm, Pitch 1.27mm)
pins: 1 S, 2 S, 3 S, 4 G, 5 D
text: 1, 2, 3

## NVMFS4841NT3G
designator Q?
Power MOSFET, 30 V, 89 A, 7 mOhm, Single N-Channel, 5-Pin DFN, Pb-Free, Tape and Reel; Manufacturer: On Semiconductor; PartNumber: NVMFS4841NT3G; Channel Polarity: N Channel; Ciss Typ (pF): 1436; Coss Typ (pF): 348; Crss Typ (pF): 177; ID Max (A): 89; Qrr Typ (nC): 10.7; V(BR)DSS Min (V): 30; VGS Max (V): 20; VGS(th) Max (V): 2.5; DatasheetVersion: Rev. 3; PackageVersion: Rev. H, 03/2013; PackageReference: DFN-5-488AA; PackageDescription: 5-Pin Small Outline No-Lead, Body 4.9 x 5.9 mm, Pitch 1.27 mm; Configuration: Single; Package Type: DFN-5; Packing: Tape and Reel; RoHS: Pb-Free; Mounting Technology: Surface Mount; Code_JEDEC: MO-240A; ComponentLink1Description: Manufacturer URL; ComponentLink1URL: http://www.onsemi.com/; ComponentLink2Description: Datasheet; ComponentLink2URL: http://www.onsemi.com/pub_link/Collateral/NVMFS4841N-D.PDF; ComponentLink3Description: Package Specification; ComponentLink3URL: http://www.onsemi.com/pub_link/Collateral/488AA.PDF
footprint ONSC-DFN-5-488AA_V (DFN, 5-Leads, Body 5.9x4.9mm, Pitch 1.27mm)
pins: 1 S, 2 S, 3 S, 4 G, 5 D
text: 1, 2, 3

## NVMFS4841NWFT1G
designator Q?
Power MOSFET, 30 V, 89 A, 7 mOhm, Single N-Channel, 5-Pin DFN, Pb-Free, Tape and Reel; Manufacturer: On Semiconductor; PartNumber: NVMFS4841NWFT1G; Channel Polarity: N Channel; Ciss Typ (pF): 1436; Coss Typ (pF): 348; Crss Typ (pF): 177; ID Max (A): 89; Qrr Typ (nC): 10.7; V(BR)DSS Min (V): 30; VGS Max (V): 20; VGS(th) Max (V): 2.5; DatasheetVersion: Rev. 3; PackageVersion: Rev. H, 03/2013; PackageReference: DFN-5-488AA; PackageDescription: 5-Pin Small Outline No-Lead, Body 4.9 x 5.9 mm, Pitch 1.27 mm; Supplier 1: Newark; Supplier Part Number 1: 11X3720; Supplier 2: Mouser; Supplier Part Number 2: 863-NVMFS4841NWFT1G; Configuration: Single; Package Type: DFN-5; Packing: Tape and Reel; RoHS: Pb-Free; Mounting Technology: Surface Mount; Code_JEDEC: MO-240A; ComponentLink1Description: Manufacturer URL; ComponentLink1URL: http://www.onsemi.com/; ComponentLink2Description: Datasheet; ComponentLink2URL: http://www.onsemi.com/pub_link/Collateral/NVMFS4841N-D.PDF; ComponentLink3Description: Package Specification; ComponentLink3URL: http://www.onsemi.com/pub_link/Collateral/488AA.PDF
footprint ONSC-DFN-5-488AA_V (DFN, 5-Leads, Body 5.9x4.9mm, Pitch 1.27mm)
pins: 1 S, 2 S, 3 S, 4 G, 5 D
text: 1, 2, 3

## NVMFS4841NWFT3G
designator Q?
Power MOSFET, 30 V, 89 A, 7 mOhm, Single N-Channel, 5-Pin DFN, Pb-Free, Tape and Reel; Manufacturer: On Semiconductor; PartNumber: NVMFS4841NWFT3G; Channel Polarity: N Channel; Ciss Typ (pF): 1436; Coss Typ (pF): 348; Crss Typ (pF): 177; ID Max (A): 89; Qrr Typ (nC): 10.7; V(BR)DSS Min (V): 30; VGS Max (V): 20; VGS(th) Max (V): 2.5; DatasheetVersion: Rev. 3; PackageVersion: Rev. H, 03/2013; PackageReference: DFN-5-488AA; PackageDescription: 5-Pin Small Outline No-Lead, Body 4.9 x 5.9 mm, Pitch 1.27 mm; Configuration: Single; Package Type: DFN-5; Packing: Tape and Reel; RoHS: Pb-Free; Mounting Technology: Surface Mount; Code_JEDEC: MO-240A; ComponentLink1Description: Manufacturer URL; ComponentLink1URL: http://www.onsemi.com/; ComponentLink2Description: Datasheet; ComponentLink2URL: http://www.onsemi.com/pub_link/Collateral/NVMFS4841N-D.PDF; ComponentLink3Description: Package Specification; ComponentLink3URL: http://www.onsemi.com/pub_link/Collateral/488AA.PDF
footprint ONSC-DFN-5-488AA_V (DFN, 5-Leads, Body 5.9x4.9mm, Pitch 1.27mm)
pins: 1 S, 2 S, 3 S, 4 G, 5 D
text: 1, 2, 3

## NVMFS5826NLT1G
designator Q?
Power MOSFET, 60 V, 26 A, 24 mOhm, Single N-Channel, 5-Pin DFN, Pb-Free, Tape and Reel; Manufacturer: On Semiconductor; PartNumber: NVMFS5826NLT1G; Channel Polarity: N Channel; Ciss Typ (pF): 850; Coss Typ (pF): 85; Crss Typ (pF): 50; ID Max (A): 26; Qrr Typ (nC): 11; V(BR)DSS Min (V): 60; VGS Max (V): 20; VGS(th) Max (V): 2.5; DatasheetVersion: Rev. 3; PackageVersion: Rev. H, 03/2013; PackageReference: DFN-5-488AA; PackageDescription: 5-Pin Small Outline No-Lead, Body 4.9 x 5.9 mm, Pitch 1.27 mm; Supplier 1: Newark; Supplier Part Number 1: 60W1851; Supplier 2: Mouser; Supplier Part Number 2: 863-NVMFS5826NLT1G; Configuration: Single; Package Type: SO-8FL / DFN-5; Packing: Tape and Reel; RoHS: Pb-Free; Mounting Technology: Surface Mount; Code_JEDEC: MO-240A; ComponentLink1Description: Manufacturer URL; ComponentLink1URL: http://www.onsemi.com/; ComponentLink2Description: Datasheet; ComponentLink2URL: http://www.onsemi.com/pub_link/Collateral/NVMFS5826NL-D.PDF; ComponentLink3Description: Package Specification; ComponentLink3URL: http://www.onsemi.com/pub_link/Collateral/488AA.PDF
footprint ONSC-DFN-5-488AA_V (DFN, 5-Leads, Body 5.9x4.9mm, Pitch 1.27mm)
pins: 1 S, 2 S, 3 S, 4 G, 5 D
text: 1, 2, 3

## NVMFS5826NLT3G
designator Q?
Power MOSFET, 60 V, 26 A, 24 mOhm, Single N-Channel, 5-Pin DFN, Pb-Free, Tape and Reel; Manufacturer: On Semiconductor; PartNumber: NVMFS5826NLT3G; Channel Polarity: N Channel; Ciss Typ (pF): 850; Coss Typ (pF): 85; Crss Typ (pF): 50; ID Max (A): 26; Qrr Typ (nC): 11; V(BR)DSS Min (V): 60; VGS Max (V): 20; VGS(th) Max (V): 2.5; DatasheetVersion: Rev. 3; PackageVersion: Rev. H, 03/2013; PackageReference: DFN-5-488AA; PackageDescription: 5-Pin Small Outline No-Lead, Body 4.9 x 5.9 mm, Pitch 1.27 mm; Supplier 1: Newark; Supplier Part Number 1: 60W1852; Supplier 2: Mouser; Supplier Part Number 2: 863-NVMFS5826NLT3G; Configuration: Single; Package Type: SO-8FL / DFN-5; Packing: Tape and Reel; RoHS: Pb-Free; Mounting Technology: Surface Mount; Code_JEDEC: MO-240A; ComponentLink1Description: Manufacturer URL; ComponentLink1URL: http://www.onsemi.com/; ComponentLink2Description: Datasheet; ComponentLink2URL: http://www.onsemi.com/pub_link/Collateral/NVMFS5826NL-D.PDF; ComponentLink3Description: Package Specification; ComponentLink3URL: http://www.onsemi.com/pub_link/Collateral/488AA.PDF
footprint ONSC-DFN-5-488AA_V (DFN, 5-Leads, Body 5.9x4.9mm, Pitch 1.27mm)
pins: 1 S, 2 S, 3 S, 4 G, 5 D
text: 1, 2, 3

## NVMFS5826NLWFT1G
designator Q?
Power MOSFET, 60 V, 26 A, 24 mOhm, Single N-Channel, 5-Pin DFN, Pb-Free, Tape and Reel; Manufacturer: On Semiconductor; PartNumber: NVMFS5826NLWFT1G; Channel Polarity: N Channel; Ciss Typ (pF): 850; Coss Typ (pF): 85; Crss Typ (pF): 50; ID Max (A): 26; Qrr Typ (nC): 11; V(BR)DSS Min (V): 60; VGS Max (V): 20; VGS(th) Max (V): 2.5; DatasheetVersion: Rev. 3; PackageVersion: Rev. H, 03/2013; PackageReference: DFN-5-488AA; PackageDescription: 5-Pin Small Outline No-Lead, Body 4.9 x 5.9 mm, Pitch 1.27 mm; Supplier 1: Newark; Supplier Part Number 1: 11X3721; Supplier 2: Mouser; Supplier Part Number 2: 863-NVMFS5826NLWFT1G; Configuration: Single; Package Type: SO-8FL / DFN-5; Packing: Tape and Reel; RoHS: Pb-Free; Mounting Technology: Surface Mount; Code_JEDEC: MO-240A; ComponentLink1Description: Manufacturer URL; ComponentLink1URL: http://www.onsemi.com/; ComponentLink2Description: Datasheet; ComponentLink2URL: http://www.onsemi.com/pub_link/Collateral/NVMFS5826NL-D.PDF; ComponentLink3Description: Package Specification; ComponentLink3URL: http://www.onsemi.com/pub_link/Collateral/488AA.PDF
footprint ONSC-DFN-5-488AA_V (DFN, 5-Leads, Body 5.9x4.9mm, Pitch 1.27mm)
pins: 1 S, 2 S, 3 S, 4 G, 5 D
text: 1, 2, 3

## NVMFS5826NLWFT3G
designator Q?
Power MOSFET, 60 V, 26 A, 24 mOhm, Single N-Channel, 5-Pin DFN, Pb-Free, Tape and Reel; Manufacturer: On Semiconductor; PartNumber: NVMFS5826NLWFT3G; Channel Polarity: N Channel; Ciss Typ (pF): 850; Coss Typ (pF): 85; Crss Typ (pF): 50; ID Max (A): 26; Qrr Typ (nC): 11; V(BR)DSS Min (V): 60; VGS Max (V): 20; VGS(th) Max (V): 2.5; DatasheetVersion: Rev. 3; PackageVersion: Rev. H, 03/2013; PackageReference: DFN-5-488AA; PackageDescription: 5-Pin Small Outline No-Lead, Body 4.9 x 5.9 mm, Pitch 1.27 mm; Supplier 1: Newark; Supplier Part Number 1: 11X3722; Supplier 2: Mouser; Supplier Part Number 2: 863-NVMFS5826NLWFT3G; Configuration: Single; Package Type: SO-8FL / DFN-5; Packing: Tape and Reel; RoHS: Pb-Free; Mounting Technology: Surface Mount; Code_JEDEC: MO-240A; ComponentLink1Description: Manufacturer URL; ComponentLink1URL: http://www.onsemi.com/; ComponentLink2Description: Datasheet; ComponentLink2URL: http://www.onsemi.com/pub_link/Collateral/NVMFS5826NL-D.PDF; ComponentLink3Description: Package Specification; ComponentLink3URL: http://www.onsemi.com/pub_link/Collateral/488AA.PDF
footprint ONSC-DFN-5-488AA_V (DFN, 5-Leads, Body 5.9x4.9mm, Pitch 1.27mm)
pins: 1 S, 2 S, 3 S, 4 G, 5 D
text: 1, 2, 3

## NVMFS5830NLT1G
designator Q?
Power MOSFET, 40 V, 185 A, 2.3 mOhm, Single N-Channel, 5-Pin DFN, Pb-Free, Tape and Reel; Manufacturer: On Semiconductor; PartNumber: NVMFS5830NLT1G; Channel Polarity: N Channel; Ciss Typ (pF): 5880; Coss Typ (pF): 750; Crss Typ (pF): 500; ID Max (A): 185; Qrr Typ (nC): 33; V(BR)DSS Min (V): 40; VGS Max (V): 20; VGS(th) Max (V): 2.4; DatasheetVersion: Rev. 2; PackageVersion: Rev. H, 03/2013; PackageReference: DFN-5-488AA; PackageDescription: 5-Pin Small Outline No-Lead, Body 4.9 x 5.9 mm, Pitch 1.27 mm; Supplier 1: Newark; Supplier Part Number 1: 60W1853; Supplier 2: Mouser; Supplier Part Number 2: 863-NVMFS5830NLT1G; Configuration: Single; Package Type: SO-8FL / DFN-5; Packing: Tape and Reel; RoHS: Pb-Free; Mounting Technology: Surface Mount; Code_JEDEC: MO-240A; ComponentLink1Description: Manufacturer URL; ComponentLink1URL: http://www.onsemi.com/; ComponentLink2Description: Datasheet; ComponentLink2URL: http://www.onsemi.com/pub_link/Collateral/NVMFS5830NL-D.PDF; ComponentLink3Description: Package Specification; ComponentLink3URL: http://www.onsemi.com/pub_link/Collateral/488AA.PDF
footprint ONSC-DFN-5-488AA_V (DFN, 5-Leads, Body 5.9x4.9mm, Pitch 1.27mm)
pins: 1 S, 2 S, 3 S, 4 G, 5 D
text: 1, 2, 3

## NVMFS5830NLT3G
designator Q?
Power MOSFET, 40 V, 185 A, 2.3 mOhm, Single N-Channel, 5-Pin DFN, Pb-Free, Tape and Reel; Manufacturer: On Semiconductor; PartNumber: NVMFS5830NLT3G; Channel Polarity: N Channel; Ciss Typ (pF): 5880; Coss Typ (pF): 750; Crss Typ (pF): 500; ID Max (A): 185; Qrr Typ (nC): 33; V(BR)DSS Min (V): 40; VGS Max (V): 20; VGS(th) Max (V): 2.4; DatasheetVersion: Rev. 2; PackageVersion: Rev. H, 03/2013; PackageReference: DFN-5-488AA; PackageDescription: 5-Pin Small Outline No-Lead, Body 4.9 x 5.9 mm, Pitch 1.27 mm; Supplier 1: Newark; Supplier Part Number 1: 60W1854; Supplier 2: Mouser; Supplier Part Number 2: 863-NVMFS5830NLT3G; Configuration: Single; Package Type: SO-8FL / DFN-5; Packing: Tape and Reel; RoHS: Pb-Free; Mounting Technology: Surface Mount; Code_JEDEC: MO-240A; ComponentLink1Description: Manufacturer URL; ComponentLink1URL: http://www.onsemi.com/; ComponentLink2Description: Datasheet; ComponentLink2URL: http://www.onsemi.com/pub_link/Collateral/NVMFS5830NL-D.PDF; ComponentLink3Description: Package Specification; ComponentLink3URL: http://www.onsemi.com/pub_link/Collateral/488AA.PDF
footprint ONSC-DFN-5-488AA_V (DFN, 5-Leads, Body 5.9x4.9mm, Pitch 1.27mm)
pins: 1 S, 2 S, 3 S, 4 G, 5 D
text: 1, 2, 3

## NVMFS5830NLWFT1G
designator Q?
Power MOSFET, 40 V, 185 A, 2.3 mOhm, Single N-Channel, 5-Pin DFN, Pb-Free, Tape and Reel; Manufacturer: On Semiconductor; PartNumber: NVMFS5830NLWFT1G; Channel Polarity: N Channel; Ciss Typ (pF): 5880; Coss Typ (pF): 750; Crss Typ (pF): 500; ID Max (A): 185; Qrr Typ (nC): 33; V(BR)DSS Min (V): 40; VGS Max (V): 20; VGS(th) Max (V): 2.4; DatasheetVersion: Rev. 2; PackageVersion: Rev. H, 03/2013; PackageReference: DFN-5-488AA; PackageDescription: 5-Pin Small Outline No-Lead, Body 4.9 x 5.9 mm, Pitch 1.27 mm; Supplier 1: Newark; Supplier Part Number 1: 11X3723; Supplier 2: Mouser; Supplier Part Number 2: 863-NVMFS5830NLWFT1G; Configuration: Single; Package Type: SO-8FL / DFN-5; Packing: Tape and Reel; RoHS: Pb-Free; Mounting Technology: Surface Mount; Code_JEDEC: MO-240A; ComponentLink1Description: Manufacturer URL; ComponentLink1URL: http://www.onsemi.com/; ComponentLink2Description: Datasheet; ComponentLink2URL: http://www.onsemi.com/pub_link/Collateral/NVMFS5830NL-D.PDF; ComponentLink3Description: Package Specification; ComponentLink3URL: http://www.onsemi.com/pub_link/Collateral/488AA.PDF
footprint ONSC-DFN-5-488AA_V (DFN, 5-Leads, Body 5.9x4.9mm, Pitch 1.27mm)
pins: 1 S, 2 S, 3 S, 4 G, 5 D
text: 1, 2, 3

## NVMFS5830NLWFT3G
designator Q?
Power MOSFET, 40 V, 185 A, 2.3 mOhm, Single N-Channel, 5-Pin DFN, Pb-Free, Tape and Reel; Manufacturer: On Semiconductor; PartNumber: NVMFS5830NLWFT3G; Channel Polarity: N Channel; Ciss Typ (pF): 5880; Coss Typ (pF): 750; Crss Typ (pF): 500; ID Max (A): 185; Qrr Typ (nC): 33; V(BR)DSS Min (V): 40; VGS Max (V): 20; VGS(th) Max (V): 2.4; DatasheetVersion: Rev. 2; PackageVersion: Rev. H, 03/2013; PackageReference: DFN-5-488AA; PackageDescription: 5-Pin Small Outline No-Lead, Body 4.9 x 5.9 mm, Pitch 1.27 mm; Supplier 1: Newark; Supplier Part Number 1: 11X3724; Supplier 2: Mouser; Supplier Part Number 2: 863-NVMFS5830NLWFT3G; Configuration: Single; Package Type: SO-8FL / DFN-5; Packing: Tape and Reel; RoHS: Pb-Free; Mounting Technology: Surface Mount; Code_JEDEC: MO-240A; ComponentLink1Description: Manufacturer URL; ComponentLink1URL: http://www.onsemi.com/; ComponentLink2Description: Datasheet; ComponentLink2URL: http://www.onsemi.com/pub_link/Collateral/NVMFS5830NL-D.PDF; ComponentLink3Description: Package Specification; ComponentLink3URL: http://www.onsemi.com/pub_link/Collateral/488AA.PDF
footprint ONSC-DFN-5-488AA_V (DFN, 5-Leads, Body 5.9x4.9mm, Pitch 1.27mm)
pins: 1 S, 2 S, 3 S, 4 G, 5 D
text: 1, 2, 3

## NVMFS5832NLT1G
designator Q?
Power MOSFET, 40 V, 120 A, 4.2 mOhm, Single N-Channel, 5-Pin DFN, Pb-Free, Tape and Reel; Manufacturer: On Semiconductor; PartNumber: NVMFS5832NLT1G; Channel Polarity: N Channel; Ciss Typ (pF): 2700; Coss Typ (pF): 360; Crss Typ (pF): 250; ID Max (A): 120; Qrr Typ (nC): 23.4; V(BR)DSS Min (V): 40; VGS Max (V): 20; VGS(th) Max (V): 2.4; DatasheetVersion: Rev. 3; PackageVersion: Rev. H, 03/2013; PackageReference: DFN-5-488AA; PackageDescription: 5-Pin Small Outline No-Lead, Body 4.9 x 5.9 mm, Pitch 1.27 mm; Supplier 1: Newark; Supplier Part Number 1: 60W1855; Supplier 2: Mouser; Supplier Part Number 2: 863-NVMFS5832NLT1G; Configuration: Single; Package Type: SO-8FL / DFN-5; Packing: Tape and Reel; RoHS: Pb-Free; Mounting Technology: Surface Mount; Code_JEDEC: MO-240A; ComponentLink1Description: Manufacturer URL; ComponentLink1URL: http://www.onsemi.com/; ComponentLink2Description: Datasheet; ComponentLink2URL: http://www.onsemi.com/pub_link/Collateral/NVMFS5832NL-D.PDF; ComponentLink3Description: Package Specification; ComponentLink3URL: http://www.onsemi.com/pub_link/Collateral/488AA.PDF
footprint ONSC-DFN-5-488AA_V (DFN, 5-Leads, Body 5.9x4.9mm, Pitch 1.27mm)
pins: 1 S, 2 S, 3 S, 4 G, 5 D
text: 1, 2, 3

## NVMFS5832NLT3G
designator Q?
Power MOSFET, 40 V, 120 A, 4.2 mOhm, Single N-Channel, 5-Pin DFN, Pb-Free, Tape and Reel; Manufacturer: On Semiconductor; PartNumber: NVMFS5832NLT3G; Channel Polarity: N Channel; Ciss Typ (pF): 2700; Coss Typ (pF): 360; Crss Typ (pF): 250; ID Max (A): 120; Qrr Typ (nC): 23.4; V(BR)DSS Min (V): 40; VGS Max (V): 20; VGS(th) Max (V): 2.4; DatasheetVersion: Rev. 3; PackageVersion: Rev. H, 03/2013; PackageReference: DFN-5-488AA; PackageDescription: 5-Pin Small Outline No-Lead, Body 4.9 x 5.9 mm, Pitch 1.27 mm; Supplier 1: Newark; Supplier Part Number 1: 60W1856; Supplier 2: Mouser; Supplier Part Number 2: 863-NVMFS5832NLT3G; Configuration: Single; Package Type: SO-8FL / DFN-5; Packing: Tape and Reel; RoHS: Pb-Free; Mounting Technology: Surface Mount; Code_JEDEC: MO-240A; ComponentLink1Description: Manufacturer URL; ComponentLink1URL: http://www.onsemi.com/; ComponentLink2Description: Datasheet; ComponentLink2URL: http://www.onsemi.com/pub_link/Collateral/NVMFS5832NL-D.PDF; ComponentLink3Description: Package Specification; ComponentLink3URL: http://www.onsemi.com/pub_link/Collateral/488AA.PDF
footprint ONSC-DFN-5-488AA_V (DFN, 5-Leads, Body 5.9x4.9mm, Pitch 1.27mm)
pins: 1 S, 2 S, 3 S, 4 G, 5 D
text: 1, 2, 3

## NVMFS5832NLWFT1G
designator Q?
Power MOSFET, 40 V, 120 A, 4.2 mOhm, Single N-Channel, 5-Pin DFN, Pb-Free, Tape and Reel; Manufacturer: On Semiconductor; PartNumber: NVMFS5832NLWFT1G; Channel Polarity: N Channel; Ciss Typ (pF): 2700; Coss Typ (pF): 360; Crss Typ (pF): 250; ID Max (A): 120; Qrr Typ (nC): 23.4; V(BR)DSS Min (V): 40; VGS Max (V): 20; VGS(th) Max (V): 2.4; DatasheetVersion: Rev. 3; PackageVersion: Rev. H, 03/2013; PackageReference: DFN-5-488AA; PackageDescription: 5-Pin Small Outline No-Lead, Body 4.9 x 5.9 mm, Pitch 1.27 mm; Supplier 1: Newark; Supplier Part Number 1: 11X3725; Supplier 2: Mouser; Supplier Part Number 2: 863-NVMFS5832NLWFT1G; Configuration: Single; Package Type: SO-8FL / DFN-5; Packing: Tape and Reel; RoHS: Pb-Free; Mounting Technology: Surface Mount; Code_JEDEC: MO-240A; ComponentLink1Description: Manufacturer URL; ComponentLink1URL: http://www.onsemi.com/; ComponentLink2Description: Datasheet; ComponentLink2URL: http://www.onsemi.com/pub_link/Collateral/NVMFS5832NL-D.PDF; ComponentLink3Description: Package Specification; ComponentLink3URL: http://www.onsemi.com/pub_link/Collateral/488AA.PDF
footprint ONSC-DFN-5-488AA_V (DFN, 5-Leads, Body 5.9x4.9mm, Pitch 1.27mm)
pins: 1 S, 2 S, 3 S, 4 G, 5 D
text: 1, 2, 3

## NVMFS5832NLWFT3G
designator Q?
Power MOSFET, 40 V, 120 A, 4.2 mOhm, Single N-Channel, 5-Pin DFN, Pb-Free, Tape and Reel; Manufacturer: On Semiconductor; PartNumber: NVMFS5832NLWFT3G; Channel Polarity: N Channel; Ciss Typ (pF): 2700; Coss Typ (pF): 360; Crss Typ (pF): 250; ID Max (A): 120; Qrr Typ (nC): 23.4; V(BR)DSS Min (V): 40; VGS Max (V): 20; VGS(th) Max (V): 2.4; DatasheetVersion: Rev. 3; PackageVersion: Rev. H, 03/2013; PackageReference: DFN-5-488AA; PackageDescription: 5-Pin Small Outline No-Lead, Body 4.9 x 5.9 mm, Pitch 1.27 mm; Supplier 1: Newark; Supplier Part Number 1: 11X3726; Supplier 2: Mouser; Supplier Part Number 2: 863-NVMFS5832NLWFT3G; Configuration: Single; Package Type: SO-8FL / DFN-5; Packing: Tape and Reel; RoHS: Pb-Free; Mounting Technology: Surface Mount; Code_JEDEC: MO-240A; ComponentLink1Description: Manufacturer URL; ComponentLink1URL: http://www.onsemi.com/; ComponentLink2Description: Datasheet; ComponentLink2URL: http://www.onsemi.com/pub_link/Collateral/NVMFS5832NL-D.PDF; ComponentLink3Description: Package Specification; ComponentLink3URL: http://www.onsemi.com/pub_link/Collateral/488AA.PDF
footprint ONSC-DFN-5-488AA_V (DFN, 5-Leads, Body 5.9x4.9mm, Pitch 1.27mm)
pins: 1 S, 2 S, 3 S, 4 G, 5 D
text: 1, 2, 3

## NVMFS5834NLT1G
designator Q?
Power MOSFET, 40 V, 75 A, 9.3 mOhm, Single N-Channel, 5-Pin DFN, Pb-Free, Tape and Reel; Manufacturer: On Semiconductor; PartNumber: NVMFS5834NLT1G; Channel Polarity: N Channel; Ciss Typ (pF): 1231; Coss Typ (pF): 198; Crss Typ (pF): 141; ID Max (A): 75; Qrr Typ (nC): 108; V(BR)DSS Min (V): 40; VGS Max (V): 20; VGS(th) Max (V): 3; DatasheetVersion: Rev. 5; PackageVersion: Rev. H, 03/2013; PackageReference: DFN-5-488AA; PackageDescription: 5-Pin Small Outline No-Lead, Body 4.9 x 5.9 mm, Pitch 1.27 mm; Supplier 1: Newark; Supplier Part Number 1: 60W1857; Supplier 2: Mouser; Supplier Part Number 2: 863-NVMFS5834NLT1G; Configuration: Single; Package Type: SO-8FL / DFN-5; Packing: Tape and Reel; RoHS: Pb-Free; Mounting Technology: Surface Mount; Code_JEDEC: MO-240A; ComponentLink1Description: Manufacturer URL; ComponentLink1URL: http://www.onsemi.com/; ComponentLink2Description: Datasheet; ComponentLink2URL: http://www.onsemi.com/pub_link/Collateral/NTMFS5834NL-D.PDF; ComponentLink3Description: Package Specification; ComponentLink3URL: http://www.onsemi.com/pub_link/Collateral/488AA.PDF
footprint ONSC-DFN-5-488AA_V (DFN, 5-Leads, Body 5.9x4.9mm, Pitch 1.27mm)
pins: 1 S, 2 S, 3 S, 4 G, 5 D
text: 1, 2, 3